# Altium schematic symbol library Memory.SchLib: 3 symbols
Pins are listed as number, name and electrical type; pins without a type are passive.

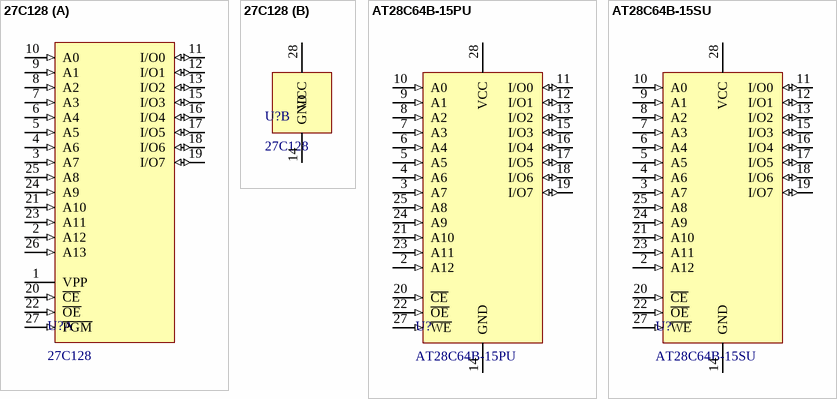
[diagram p0: symbols 27C128 to AT28C64B-15SU]

## 27C128
designator U?
128K (16K x 8) CMOS EPROM
footprint PDIP28
part A pins: 1 VPP (power), 2 A12 (in), 3 A7 (in), 4 A6 (in), 5 A5 (in), 6 A4 (in), 7 A3 (in), 8 A2 (in), 9 A1 (in), 10 A0 (in), 11 I/O0 (io), 12 I/O1 (io), 13 I/O2 (io), 15 I/O3 (io), 16 I/O4 (io), 17 I/O5 (io), 18 I/O6 (io), 19 I/O7 (io), 20 ~{CE} (in), 21 A10 (in), 22 ~{OE} (in), 23 A11 (in), 24 A9 (in), 25 A8 (in), 26 A13 (in), 27 ~{PGM} (in)
part B pins: 14 GND (power), 28 VCC (power)

## AT28C64B-15PU
designator U?
64K (8K x 8) Parallel EEPROM
footprint PDIP28
pins: 2 A12 (in), 3 A7 (in), 4 A6 (in), 5 A5 (in), 6 A4 (in), 7 A3 (in), 8 A2 (in), 9 A1 (in), 10 A0 (in), 11 I/O0 (io), 12 I/O1 (io), 13 I/O2 (io), 14 GND (power), 15 I/O3 (io), 16 I/O4 (io), 17 I/O5 (io), 18 I/O6 (io), 19 I/O7 (io), 20 ~{CE} (in), 21 A10 (in), 22 ~{OE} (in), 23 A11 (in), 24 A9 (in), 25 A8 (in), 27 ~{WE} (in), 28 VCC (power)

## AT28C64B-15SU
designator U?
64K (8K x 8) Parallel EEPROM
footprint SOIC28
pins: 2 A12 (in), 3 A7 (in), 4 A6 (in), 5 A5 (in), 6 A4 (in), 7 A3 (in), 8 A2 (in), 9 A1 (in), 10 A0 (in), 11 I/O0 (io), 12 I/O1 (io), 13 I/O2 (io), 14 GND (power), 15 I/O3 (io), 16 I/O4 (io), 17 I/O5 (io), 18 I/O6 (io), 19 I/O7 (io), 20 ~{CE} (in), 21 A10 (in), 22 ~{OE} (in), 23 A11 (in), 24 A9 (in), 25 A8 (in), 27 ~{WE} (in), 28 VCC (power)